# EAGLE library part 105133-0011 (library 105133-0011)
Conn Micro USB Type B RCP 5 POS 0.65mm Solder ST SMD 5 Terminal 1 Port Embossed T/R
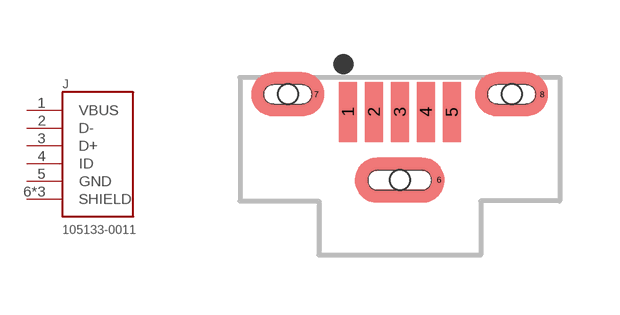
[diagram p0: symbol with the pads of MOLEX_105133-0011; footprint MOLEX_105133-0011]

Designator prefix J

## 105133-0011 (Availability: Good; Description: Conn Micro USB Type B RCP 5 POS 0.65mm Solder ST SMD 5 Terminal 1 Port Embossed T/R; MF: Molex; MP: 1051330011; Package: None; Price: 0.60 USD)  [MOLEX_105133-0011]
1  VBUS  pwr
2  D-
3  D+
4  ID  pas
5  GND  pas
6  SHIELD  pas
7  SHIELD  pas
8  SHIELD  pas

## Footprint MOLEX_105133-0011 (pad centres in mm)
Conn Micro USB Type B RCP 5 POS 0.65mm Solder ST SMD 5 Terminal 1 Port Embossed T/R
smd 0.45 x 1.5: 1 -1.3,-0.44; 2 -0.65,-0.44; 3 0,-0.44; 4 0.65,-0.44; 5 1.3,-0.44
smd 0.1 x 0.1: 6 0.98,-2.14; 7 -2.09,0; 8 3.56,0
hole 0.5 at 0,-2.15
hole 0.5 at -2.8,0
hole 0.5 at 2.8,0